# Altium footprint library IOT_Fire_Alarm.PcbLib: 18 footprints (part 2 of 2)
Each footprint in its own frame and in the unit in brackets; x right, y up, seen from the top. Pads: shape width x height; smd on the part's side, far side on the other; paste and mask are expansions set on the pad; w line width, h text height; cw(c..) or ccw(c..) is an arc to the next point about the centre after c.
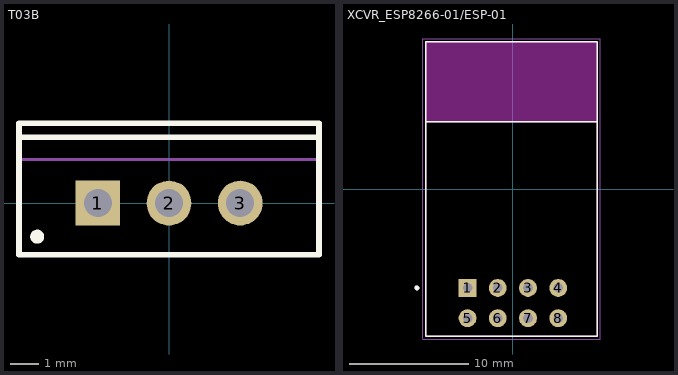
[diagram p1: the footprints below, top view; thin cyan lines are the x and y axes]

## T03B [mm]
height 1.524
pads (3):
  rect 1.6x1.6 hole 1: 1(-2.54,0)
  round 1.6 hole 1: 2(0,0) 3(2.54,0)
Top Overlay:
  circle w0.25: c-4.7,-1.2 r0.125
  lines w0.2: -5.35,2.35 5.35,2.35 ; -5.35,-1.85 -5.35,2.85 5.35,2.85 5.35,-1.85 -5.35,-1.85
Mechanical 13:
  lines w0.1: -5.35,1.55 5.35,1.55 ; -5.35,-1.85 5.35,-1.85 5.35,2.85 -5.35,2.85 -5.35,-1.85
Mechanical 15:
  lines w0.1: -0.5,0 0.5,0 ; 0,-0.5 0,0.5
3D body: height 12.9, standoff 4, extent -5.4,-1.9 5.4,2.9
3D body: height 19.4, standoff 12.9, extent -5.349,1.551 5.349,2.849

## XCVR_ESP8266-01/ESP-01 [mm]
height 1.524
pads (8):
  rect 1.5x1.5 hole 0.8: 1(-3.81,-8.31)
  round 1.5 hole 0.8: 2(-1.27,-8.31) 3(1.27,-8.31) 4(3.81,-8.31) 5(-3.81,-10.85) 6(-1.27,-10.85) 7(1.27,-10.85) 8(3.81,-10.85)
Top Overlay:
  circle w0.2: c-8.06,-8.31 r0.1
  lines w0.127: -7.31,5.65 7.09,5.65 ; -7.31,5.65 -7.31,12.35 7.09,12.35 7.09,5.65 ; -7.31,5.65 -7.31,-12.35 7.09,-12.35 7.09,5.65
Keep-Out Layer:
  region: 7.09,5.65 -7.31,5.65 -7.31,12.35 7.09,12.35
  region: 7.09,5.65 -7.31,5.65 -7.31,12.35 7.09,12.35
Mechanical 13:
  circle w0.2: c-8.06,-8.31 r0.1
  lines w0.127: -7.31,5.65 7.09,5.65 ; -7.31,5.65 -7.31,12.35 7.09,12.35 7.09,5.65 ; -7.31,5.65 -7.31,-12.35 7.09,-12.35 7.09,5.65
Mechanical 15:
  lines w0.05: -7.56,-12.6 7.34,-12.6 7.34,12.6 -7.56,12.6 -7.56,-12.6
3D body "step_temp.STEP": height 6.5, standoff -6, extent -7.2,-12.35 7.2,12.35